# EAGLE library part 15EDGRC-3.81-6P-14-00A (library Connectors)
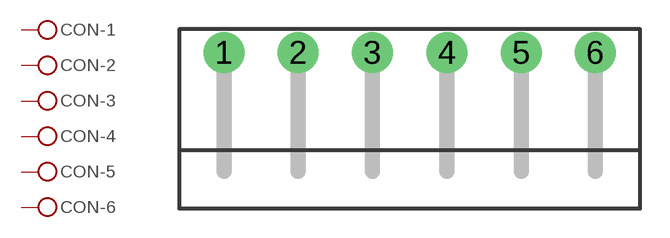
[diagram p0: symbol with the pads of 15EDGRC-3.81-6P-14-00A; footprint 15EDGRC-3.81-6P-14-00A]

Designator prefix CON; gates -1=KL -2=KL -3=KL -4=KL -5=KL -6=KL

## 15EDGRC-3.81-6P-14-00A  [15EDGRC-3.81-6P-14-00A]
1  -1:KL  pas
2  -2:KL  pas
3  -3:KL  pas
4  -4:KL  pas
5  -5:KL  pas
6  -6:KL  pas

## Footprint 15EDGRC-3.81-6P-14-00A (pad centres in mm)
drill 1.4: 1 0,0; 2 3.81,0; 3 7.62,0; 4 11.43,0; 5 15.24,0; 6 19.05,0